# Altium footprint library 2828372.PcbLib: 1 footprints
Each footprint in its own frame and in the unit in brackets; x right, y up, seen from the top. Pads: shape width x height; smd on the part's side, far side on the other; paste and mask are expansions set on the pad; w line width, h text height; cw(c..) or ccw(c..) is an arc to the next point about the centre after c.
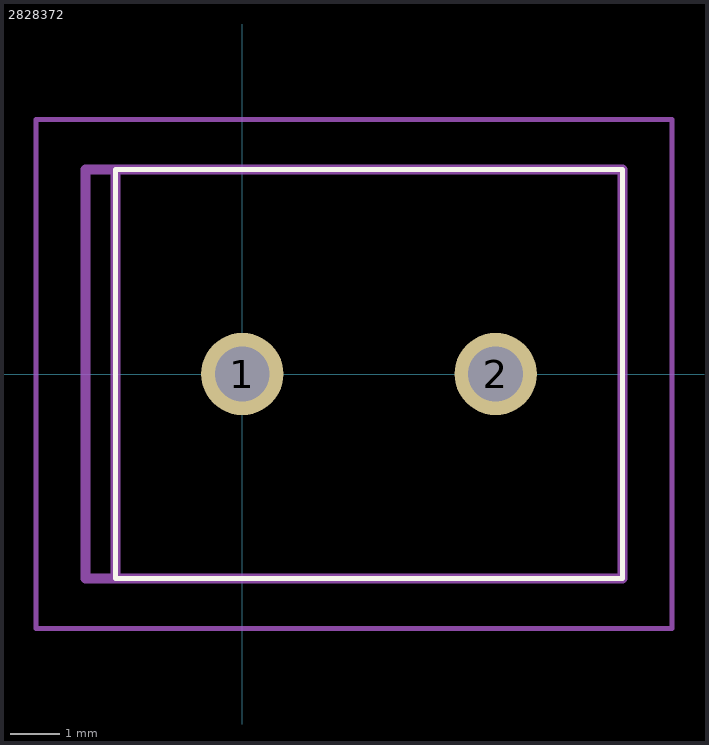
[diagram p0: the footprint, top view; thin cyan lines are the x and y axes]

## 2828372 [mm]
pads (2):
  round 1.65 hole 1.1: 1(0,0) 2(5.08,0)
Top Overlay:
  lines w0.1: -2.54,-4.1 7.62,-4.1 7.62,4.1 -2.54,4.1 -2.54,-4.1
Mechanical 15:
  lines w0.2: -2.54,-4.1 7.62,-4.1 7.62,4.1 -2.54,4.1 ; -2.54,-4.1 -2.54,4.1 ; -2.54,-4.1 -2.54,4.1 ; -2.54,-4.1 -3.14,-4.1 -3.14,4.1 -2.54,4.1
Mechanical 20:
  lines w0.1: -4.14,-5.1 8.62,-5.1 8.62,5.1 -4.14,5.1 -4.14,-5.1